# EAGLE library part REL-PLA2 (library aquarius)
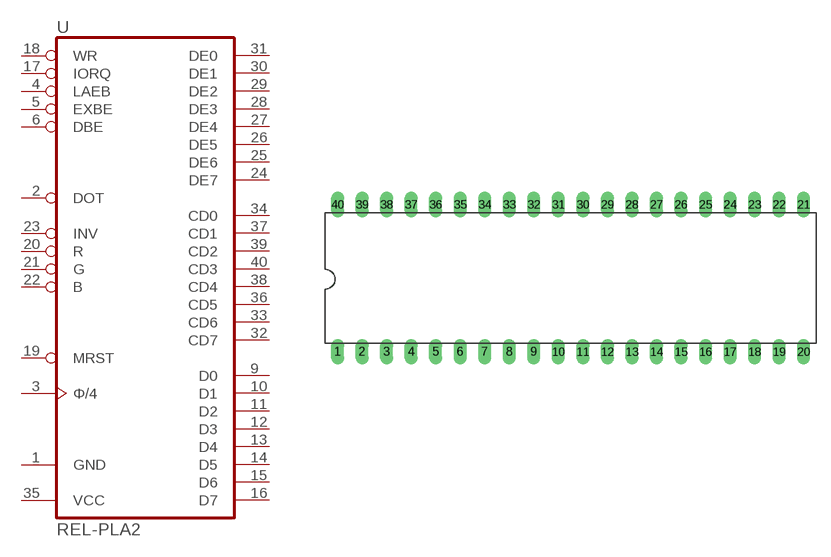
[diagram p0: symbol with the pads of REL-PLA2; footprint REL-PLA2]

Designator prefix -

## REL-PLA2  [REL-PLA2]
1  GND  pwr
2  DOT  in
3  Φ/4  in
4  LAEB  out
5  EXBE  out
6  DBE  out
9  D0
10  D1
11  D2
12  D3
13  D4
14  D5
15  D6
16  D7
17  IORQ  out
18  WR  out
19  MRST  out
20  R  in
21  G  in
22  B  in
23  INV  in
24  DE7  out
25  DE6  out
26  DE5  out
27  DE4  out
28  DE3  out
29  DE2  out
30  DE1  out
31  DE0  out
32  CD7  out
33  CD6  out
34  CD0  out
35  VCC  pwr
36  CD5  out
37  CD1  out
38  CD4  out
39  CD2  out
40  CD3  out

## Footprint REL-PLA2 (pad centres in mm)
Dual In Line Package
drill 0.813 long: 1 -24.13,-7.62; 2 -21.59,-7.62; 3 -19.05,-7.62; 4 -16.51,-7.62; 5 -13.97,-7.62; 6 -11.43,-7.62; 7 -8.89,-7.62; 8 -6.35,-7.62; 9 -3.81,-7.62; 10 -1.27,-7.62; 11 1.27,-7.62; 12 3.81,-7.62; 13 6.35,-7.62; 14 8.89,-7.62; 15 11.43,-7.62; 16 13.97,-7.62; 17 16.51,-7.62; 18 19.05,-7.62; 19 21.59,-7.62; 20 24.13,-7.62; 21 24.13,7.62; 22 21.59,7.62; 23 19.05,7.62; 24 16.51,7.62; 25 13.97,7.62; 26 11.43,7.62; 27 8.89,7.62; 28 6.35,7.62; 29 3.81,7.62; 30 1.27,7.62; 31 -1.27,7.62; 32 -3.81,7.62; 33 -6.35,7.62; 34 -8.89,7.62; 35 -11.43,7.62; 36 -13.97,7.62; 37 -16.51,7.62; 38 -19.05,7.62; 39 -21.59,7.62; 40 -24.13,7.62